# EAGLE library part AK4495EQ (library my_ic)
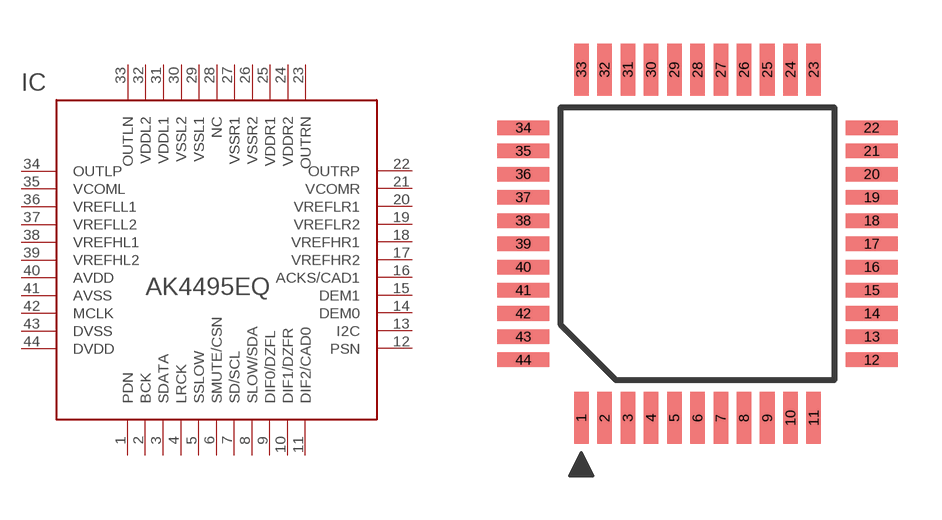
[diagram p15: symbol with the pads of LQFP44; footprint LQFP44]

Designator prefix IC

## AK4495EQ  [LQFP44]
1  PDN  in
2  BCK  in
3  SDATA  in
4  LRCK  in
5  SSLOW  in
6  SMUTE/CSN  in
7  SD/SCL
8  SLOW/SDA
9  DIF0/DZFL
10  DIF1/DZFR
11  DIF2/CAD0  in
12  PSN  in
13  I2C  in
14  DEM0  in
15  DEM1  in
16  ACKS/CAD1  in
17  VREFHR2  pwr
18  VREFHR1  pwr
19  VREFLR2  pwr
20  VREFLR1  pwr
21  VCOMR  pwr
22  OUTRP  out
23  OUTRN  out
24  VDDR2  pwr
25  VDDR1  pwr
26  VSSR2  pwr
27  VSSR1  pwr
28  NC  nc
29  VSSL1  pwr
30  VSSL2  pwr
31  VDDL1  pwr
32  VDDL2  pwr
33  OUTLN  out
34  OUTLP  out
35  VCOML  pwr
36  VREFLL1  pwr
37  VREFLL2  pwr
38  VREFHL1  pwr
39  VREFHL2  pwr
40  AVDD  pwr
41  AVSS  pwr
42  MCLK  in
43  DVSS  pwr
44  DVDD  pwr

## Footprint LQFP44 (pad centres in mm)
Plastic Quad Flat Package SOT307-2 44 leads (lead length 1.3 mm); body 10 x 10 x 1.75 mm SOT307-2 source: http://www.semiconductors.philips.com/ LQFP-MSQFP-QFP-SQFP-TQFP-REFLOW.pdf
smd 0.5 x 1.8: 1 -4,-6; 2 -3.2,-6; 3 -2.4,-6; 4 -1.6,-6; 5 -0.8,-6; 6 0,-6; 7 0.8,-6; 8 1.6,-6; 9 2.4,-6; 10 3.2,-6; 11 4,-6; 23 4,6; 24 3.2,6; 25 2.4,6; 26 1.6,6; 27 0.8,6; 28 0,6; 29 -0.8,6; 30 -1.6,6; 31 -2.4,6; 32 -3.2,6; 33 -4,6
smd 1.8 x 0.5: 12 6,-4; 13 6,-3.2; 14 6,-2.4; 15 6,-1.6; 16 6,-0.8; 17 6,0; 18 6,0.8; 19 6,1.6; 20 6,2.4; 21 6,3.2; 22 6,4; 34 -6,4; 35 -6,3.2; 36 -6,2.4; 37 -6,1.6; 38 -6,0.8; 39 -6,0; 40 -6,-0.8; 41 -6,-1.6; 42 -6,-2.4; 43 -6,-3.2; 44 -6,-4